# EAGLE library part XBEE_SERIES2 (library wireless)
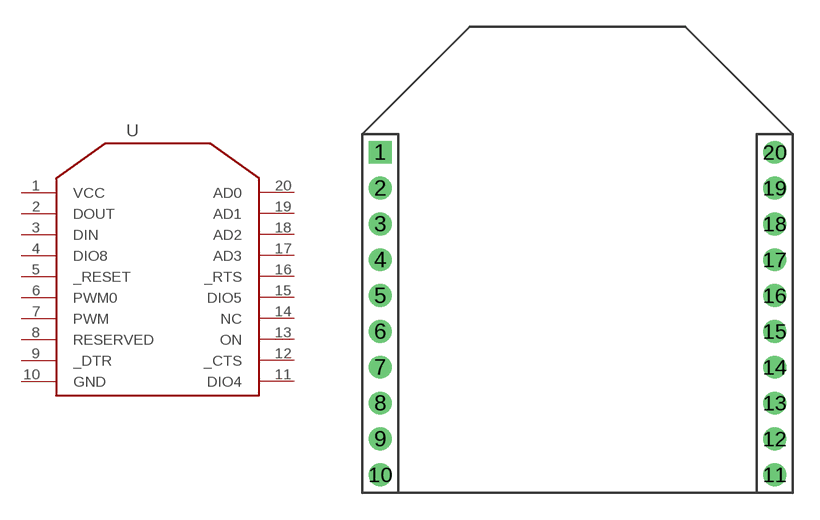
[diagram p0: symbol with the pads of XB2; footprint XB2]

Designator prefix U

## XBEE_SERIES2  [XB2]
1  VCC
2  DOUT
3  DIN
4  DIO8
5  _RESET
6  PWM0
7  PWM
8  RESERVED
9  _DTR
10  GND
11  DIO4
12  _CTS
13  ON
14  NC
15  DIO5
16  _RTS
17  AD3
18  AD2
19  AD1
20  AD0

## Footprint XB2 (pad centres in mm)
drill 0.6 pad 1.27 square: 1 -11,9
drill 0.6 pad 1.27: 2 -11,7; 3 -11,5; 4 -11,3; 5 -11,1; 6 -11,-1; 7 -11,-3; 8 -11,-5; 9 -11,-7; 10 -11,-9; 11 11,-9; 12 11,-7; 13 11,-5; 14 11,-3; 15 11,-1; 16 11,1; 17 11,3; 18 11,5; 19 11,7; 20 11,9